# EAGLE library part ADC0809 (library chuong)
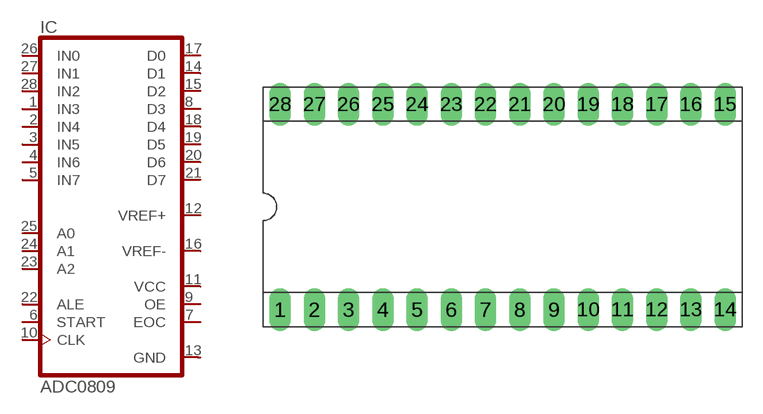
[diagram p7: symbol with the pads of DIL-28S; footprint DIL-28S]

Designator prefix IC

## ADC0809  [DIL-28S]
1  IN3  in
2  IN4  in
3  IN5  in
4  IN6  in
5  IN7  in
6  START  in
7  EOC  out
8  D3  hiz
9  OE  in
10  CLK  in
11  VCC  out
12  VREF+  in
13  GND  out
14  D1  hiz
15  D2  hiz
16  VREF-  in
17  D0  hiz
18  D4  hiz
19  D5  hiz
20  D6  hiz
21  D7  hiz
22  ALE  in
23  A2  in
24  A1  in
25  A0  in
26  IN0  in
27  IN1  in
28  IN2  in

## Footprint DIL-28S (pad centres in mm)
drill 0.61 pad 1.6 long: 1 -16.51,-7.62; 2 -13.97,-7.62; 3 -11.43,-7.62; 4 -8.89,-7.62; 5 -6.35,-7.62; 6 -3.81,-7.62; 7 -1.27,-7.62; 8 1.27,-7.62; 9 3.81,-7.62; 10 6.35,-7.62; 11 8.89,-7.62; 12 11.43,-7.62; 13 13.97,-7.62; 14 16.51,-7.62; 15 16.51,7.62; 16 13.97,7.62; 17 11.43,7.62; 18 8.89,7.62; 19 6.35,7.62; 20 3.81,7.62; 21 1.27,7.62; 22 -1.27,7.62; 23 -3.81,7.62; 24 -6.35,7.62; 25 -8.89,7.62; 26 -11.43,7.62; 27 -13.97,7.62; 28 -16.51,7.62